# EAGLE library part 615006143221 (library Eagle_WR-MJ (rev23b))
WR-MJ Modular Jack Horizontal Shielded 6P6C Tab Up KIND PROPERTIES Quality Class:500 Mating cycles General Information Operating Temperature:-40 up to +85 °C Compliance: RoHS Electrical Properties IR 1:1.5A Working Voltage:120V (AC) Withstanding Voltage:1000V (AC) Contact Resistance:20mΩ RISO:500 MΩ Material Properties Insulator MateriaL:PBT Insulator Flammability Rating:UL94 V-0 Color:Black Contact Material Copper Alloy Contact Plating:Gold Contact Type:Stamped Shielding Material:Bronze Shielding Plating:Nickel Packaging Properties Packaging:Tray <https://www.we-online.com/catalog/media/o33119v209%20Family_WR-MJ_615006143221.jpg> Details see: https://www.we-online.com/catalog/en/MJ_HORIZONTAL_SHIELDED_6P6C_TAB_UP/ Updated by Yingchun,Shan 2019-11-26 2019 (C) Würth Elektronik
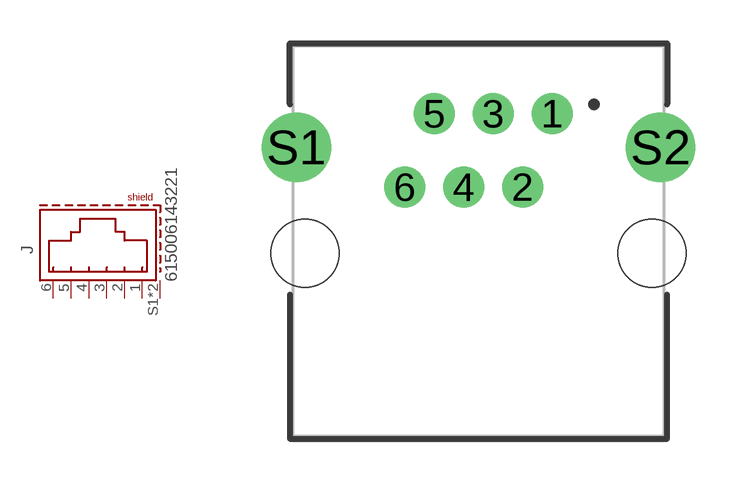
[diagram p45: symbol with the pads of 615006143221; footprint 615006143221]

Designator prefix J

## 615006143221 (DATASHEET-URL: https://www.we-online.com/redexpert/spec/615006143221?ae; MOUNT: THT; PART-NUMBER: 615006143221; TYPE: Horizontal; VALUE: 615006143221; XPXC: 6P6C)  [615006143221]
1  1  pas
2  2  pas
3  3  pas
4  4  pas
5  5  pas
6  6  pas
S1  SHIELD  pas
S2  SHIELD  pas

## Footprint 615006143221 (pad centres in mm)
WR-MJ Modular Jack Horizontal Shielded 6P6C Tab Up
drill 0.9: 1 2.55,4.41; 2 1.53,1.87; 3 0.51,4.41; 4 -0.51,1.87; 5 -1.53,4.41; 6 -2.55,1.87
drill 1.6: S1 -6.3,3.25; S2 6.3,3.25
hole 2.36 at -6,-0.43
hole 2.36 at 6,-0.43